# Altium footprint library AMP20220505.PcbLib: 21 footprints (part 1 of 2)
Each footprint in its own frame and in the unit in brackets; x right, y up, seen from the top. Pads: shape width x height; smd on the part's side, far side on the other; paste and mask are expansions set on the pad; w line width, h text height; cw(c..) or ccw(c..) is an arc to the next point about the centre after c.
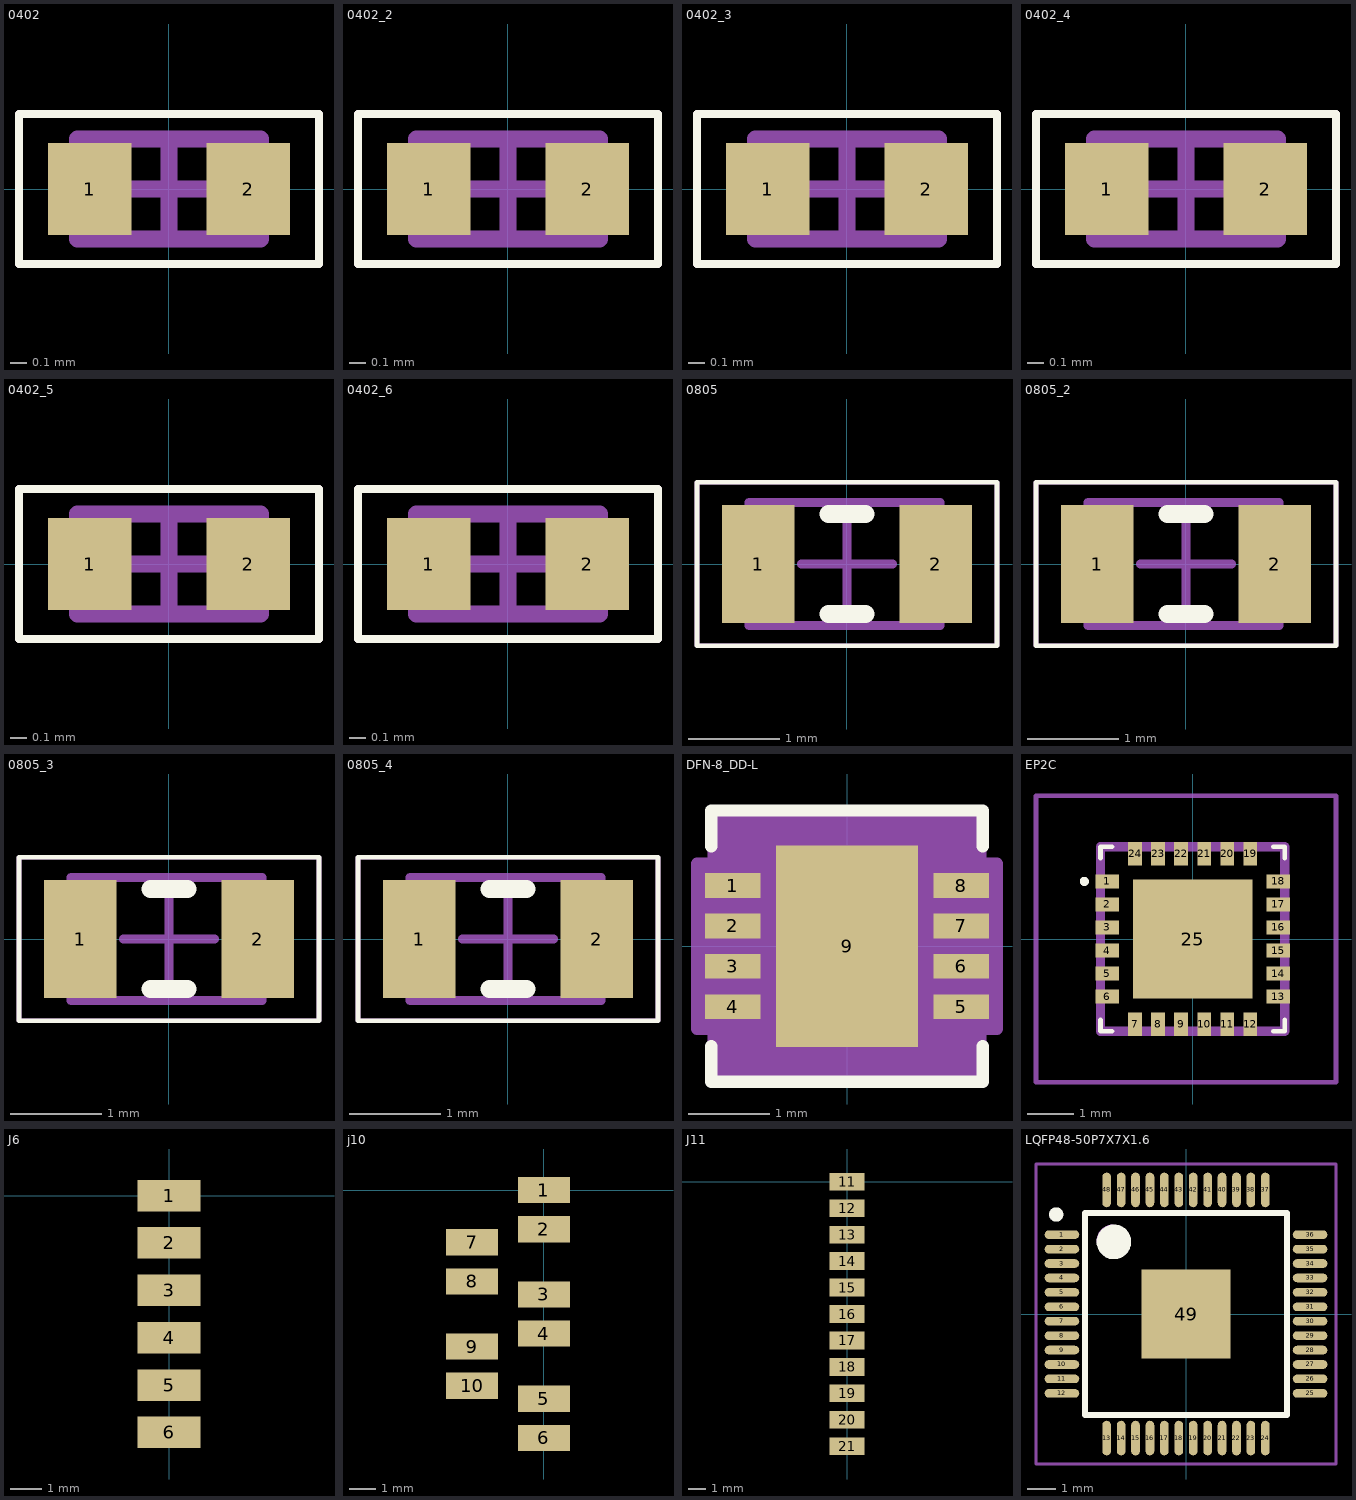
[diagram p0: the footprints below, top view; thin cyan lines are the x and y axes]

## 0402 [mm]
height 0.3
pads (2):
  rect 0.5x0.55 smd: 1(-0.475,0) 2(0.475,0)
Top Overlay:
  lines w0.05: -0.9,-0.45 -0.9,0.45 0.9,0.45 0.9,-0.45 -0.9,-0.45
Mechanical 13:
  lines w0.1: -0.55,-0.3 0.55,-0.3 0.55,0.3 -0.55,0.3 -0.55,-0.3
Mechanical 15:
  lines w0.05: -0.9,-0.45 -0.9,0.45 0.9,0.45 0.9,-0.45 -0.9,-0.45
  lines w0.1: -0.25,0 0.25,0 ; 0,-0.25 0,0.25
3D body "R0402.STEP": height 0.35, standoff 0, extent -0.5,-0.25 0.5,0.25

## 0402_2 [mm]
pads (2):
  rect 0.5x0.55 smd: 1(-0.475,0) 2(0.475,0)
Top Overlay:
  lines w0.05: -0.9,-0.45 -0.9,0.45 0.9,0.45 0.9,-0.45 -0.9,-0.45
Mechanical 13:
  lines w0.1: -0.55,-0.3 0.55,-0.3 0.55,0.3 -0.55,0.3 -0.55,-0.3
Mechanical 15:
  lines w0.05: -0.9,-0.45 -0.9,0.45 0.9,0.45 0.9,-0.45 -0.9,-0.45
  lines w0.1: -0.25,0 0.25,0 ; 0,-0.25 0,0.25
3D body "R0402.STEP": height 0.35, standoff 0, extent -0.5,-0.25 0.5,0.25

## 0402_3 [mm]
pads (2):
  rect 0.5x0.55 smd: 1(-0.475,0) 2(0.475,0)
Top Overlay:
  lines w0.05: -0.9,-0.45 0.9,-0.45 0.9,0.45 -0.9,0.45 -0.9,-0.45
Mechanical 13:
  lines w0.1: -0.55,-0.3 -0.55,0.3 0.55,0.3 0.55,-0.3 -0.55,-0.3
Mechanical 15:
  lines w0.05: -0.9,-0.45 0.9,-0.45 0.9,0.45 -0.9,0.45 -0.9,-0.45
  lines w0.1: -0.25,0 0.25,0 ; 0,-0.25 0,0.25
3D body "R0402.STEP": height 0.35, standoff 0, extent -0.5,-0.25 0.5,0.25

## 0402_4 [mm]
pads (2):
  rect 0.5x0.55 smd: 1(-0.475,0) 2(0.475,0)
Top Overlay:
  lines w0.05: -0.9,-0.45 0.9,-0.45 0.9,0.45 -0.9,0.45 -0.9,-0.45
Mechanical 13:
  lines w0.1: -0.55,-0.3 -0.55,0.3 0.55,0.3 0.55,-0.3 -0.55,-0.3
Mechanical 15:
  lines w0.05: -0.9,-0.45 0.9,-0.45 0.9,0.45 -0.9,0.45 -0.9,-0.45
  lines w0.1: -0.25,0 0.25,0 ; 0,-0.25 0,0.25
3D body "R0402.STEP": height 0.35, standoff 0, extent -0.5,-0.25 0.5,0.25

## 0402_5 [mm]
pads (2):
  rect 0.5x0.55 smd: 1(-0.475,0) 2(0.475,0)
Top Overlay:
  lines w0.05: -0.9,-0.45 -0.9,0.45 0.9,0.45 0.9,-0.45 -0.9,-0.45
Mechanical 13:
  lines w0.1: -0.55,-0.3 0.55,-0.3 0.55,0.3 -0.55,0.3 -0.55,-0.3
Mechanical 15:
  lines w0.05: -0.9,-0.45 -0.9,0.45 0.9,0.45 0.9,-0.45 -0.9,-0.45
  lines w0.1: -0.25,0 0.25,0 ; 0,-0.25 0,0.25
3D body "R0402.STEP": height 0.35, standoff 0, extent -0.5,-0.25 0.5,0.25

## 0402_6 [mm]
pads (2):
  rect 0.5x0.55 smd: 1(-0.475,0) 2(0.475,0)
Top Overlay:
  lines w0.05: -0.9,-0.45 0.9,-0.45 0.9,0.45 -0.9,0.45 -0.9,-0.45
Mechanical 13:
  lines w0.1: -0.55,-0.3 -0.55,0.3 0.55,0.3 0.55,-0.3 -0.55,-0.3
Mechanical 15:
  lines w0.05: -0.9,-0.45 0.9,-0.45 0.9,0.45 -0.9,0.45 -0.9,-0.45
  lines w0.1: -0.25,0 0.25,0 ; 0,-0.25 0,0.25
3D body "R0402.STEP": height 0.35, standoff 0, extent -0.5,-0.25 0.5,0.25

## 0805 [mm]
height 0.5
pads (2):
  rect 0.8x1.3 smd: 1(-0.975,0) 2(0.975,0)
Top Overlay:
  lines w0.05: -1.65,-0.9 -1.65,0.9 1.65,0.9 1.65,-0.9 -1.65,-0.9
  lines w0.2: -0.2,-0.55 0.2,-0.55 ; -0.2,0.55 0.2,0.55
Mechanical 13:
  lines w0.1: -1.075,-0.675 1.025,-0.675 1.025,0.675 -1.075,0.675 -1.075,-0.675
Mechanical 15:
  lines w0.05: -1.65,-0.9 -1.65,0.9 1.65,0.9 1.65,-0.9 -1.65,-0.9
  lines w0.1: -0.5,0 0.5,0 ; 0,-0.5 0,0.5
3D body "R0805.STEP": height 0.55, standoff 0, extent -1.025,-0.63 0.975,0.63

## 0805_2 [mm]
pads (2):
  rect 0.8x1.3 smd: 1(-0.975,0) 2(0.975,0)
Top Overlay:
  lines w0.05: -1.65,-0.9 1.65,-0.9 1.65,0.9 -1.65,0.9 -1.65,-0.9
  lines w0.2: -0.2,-0.55 0.2,-0.55 ; -0.2,0.55 0.2,0.55
Mechanical 13:
  lines w0.1: -1.075,-0.675 -1.075,0.675 1.025,0.675 1.025,-0.675 -1.075,-0.675
Mechanical 15:
  lines w0.05: -1.65,-0.9 1.65,-0.9 1.65,0.9 -1.65,0.9 -1.65,-0.9
  lines w0.1: -0.5,0 0.5,0 ; 0,-0.5 0,0.5
3D body "R0805.STEP": height 0.55, standoff 0, extent -1.025,-0.63 0.975,0.63

## 0805_3 [mm]
pads (2):
  rect 0.8x1.3 smd: 1(-0.975,0) 2(0.975,0)
Top Overlay:
  lines w0.05: -1.65,-0.9 1.65,-0.9 1.65,0.9 -1.65,0.9 -1.65,-0.9
  lines w0.2: -0.2,-0.55 0.2,-0.55 ; -0.2,0.55 0.2,0.55
Mechanical 13:
  lines w0.1: -1.075,-0.675 -1.075,0.675 1.025,0.675 1.025,-0.675 -1.075,-0.675
Mechanical 15:
  lines w0.05: -1.65,-0.9 1.65,-0.9 1.65,0.9 -1.65,0.9 -1.65,-0.9
  lines w0.1: -0.5,0 0.5,0 ; 0,-0.5 0,0.5
3D body "R0805.STEP": height 0.55, standoff 0, extent -1.025,-0.63 0.975,0.63

## 0805_4 [mm]
pads (2):
  rect 0.8x1.3 smd: 1(-0.975,0) 2(0.975,0)
Top Overlay:
  lines w0.05: -1.65,-0.9 -1.65,0.9 1.65,0.9 1.65,-0.9 -1.65,-0.9
  lines w0.2: -0.2,-0.55 0.2,-0.55 ; -0.2,0.55 0.2,0.55
Mechanical 13:
  lines w0.1: -1.075,-0.675 1.025,-0.675 1.025,0.675 -1.075,0.675 -1.075,-0.675
Mechanical 15:
  lines w0.05: -1.65,-0.9 -1.65,0.9 1.65,0.9 1.65,-0.9 -1.65,-0.9
  lines w0.1: -0.5,0 0.5,0 ; 0,-0.5 0,0.5
3D body "R0805.STEP": height 0.55, standoff 0, extent -1.025,-0.63 0.975,0.63

## DFN-8_DD-L [mil]
height 61.02
pads (9):
  rect 27x12 smd: 1(-55.5,29.53) 2(-55.5,9.84) 3(-55.5,-9.84) 4(-55.5,-29.53) 5(55.5,-29.53) 6(55.5,-9.84) 7(55.5,9.84) 8(55.5,29.53)
  rect 69x98 smd paste-48.5: 9(0,0)
Top Overlay:
  lines w6: -66,-48.63 -66,-66 66,-66 66,-48.63 ; -66,48.63 -66,66 66,66 66,48.63
Top Paste:
  region: 34.5,49 -34.5,49 -34.5,-49 34.5,-49
Mechanical 13:
  lines w0: -12,61 ccw(c0,61) 12,61
Mechanical 15:
  region: -65,-40.17 -73,-40.17 -73,40.17 -65,40.17 -65,65 65,65 65,40.17 73,40.17 73,-40.17 65,-40.17 65,-65 -65,-65
  lines w6: -73,-40.17 -65,-40.17 -65,-65 65,-65 65,-40.17 73,-40.17 73,40.17 65,40.17 65,65 -65,65 -65,40.17 -73,40.17 -73,-40.17
3D body "DFN-8_DD-L.stp": height 32.1, standoff 0, extent -63,-61 63,61

## EP2C [mm]
height 1.55
pads (25):
  rect 0.51x0.3 smd: 1(-1.855,1.25) 2(-1.855,0.75) 3(-1.855,0.25) 4(-1.855,-0.25) 5(-1.855,-0.75) 6(-1.855,-1.25) 13(1.855,-1.25) 14(1.855,-0.75) 15(1.855,-0.25) 16(1.855,0.25) 17(1.855,0.75) 18(1.855,1.25)
  rect 0.3x0.51 smd: 7(-1.25,-1.855) 8(-0.75,-1.855) 9(-0.25,-1.855) 10(0.25,-1.855) 11(0.75,-1.855) 12(1.25,-1.855) 19(1.25,1.855) 20(0.75,1.855) 21(0.25,1.855) 22(-0.25,1.855) 23(-0.75,1.855) 24(-1.25,1.855)
  rect 2.59x2.59 smd: 25(0,0)
Top Overlay:
  lines w0.1: -2,-1.75 -2,-2 -1.75,-2 ; -2,1.75 -2,2 -1.75,2 ; 1.75,-2 2,-2 2,-1.75 ; 1.75,2 2,2 2,1.75 ; -2.4,1.25 cw(c-2.35,1.25) -2.3,1.25 cw(c-2.35,1.25) -2.4,1.25
Mechanical 13:
  lines w0.2: -2,-2 -2,2 2,2 2,-2 -2,-2
Mechanical 15:
  lines w0.1: -3.4,-3.11 -3.4,3.11 3.11,3.11 3.11,-3.11 -3.4,-3.11
3D body "EP2C+.stp": height 1.1, standoff 0, extent -2,-2 2,2

## J6 [mm]
height 1.2
pads (6):
  rect 2x1 smd: 1(0,0) 2(0,-1.5) 3(0,-3) 4(0,-4.5) 5(0,-6) 6(0,-7.5)

## j10 [mm]
height 1.2
pads (10):
  rect 2x1 smd: 1(0,0) 2(0,-1.5) 3(0,-4) 4(0,-5.5) 5(0,-8) 6(0,-9.5) 7(-2.75,-2) 8(-2.75,-3.5) 9(-2.75,-6) 10(-2.75,-7.5)

## J11 [mm]
height 1.2
pads (11):
  rect 2x1 smd: 11(0,0) 12(0,-1.5) 13(0,-3) 14(0,-4.5) 15(0,-6) 16(0,-7.5) 17(0,-9) 18(0,-10.5) 19(0,-12) 20(0,-13.5) 21(0,-15)

## LQFP48-50P7X7X1.6 [mm] "LQFP, 48-Leads, Body 9.2x9.2mm (max), Pitch 0.50mm, IPC Medium Density"
height 1.6
pads (49):
  oval 1.2x0.3 smd: 1(-4.3,2.75) 2(-4.3,2.25) 3(-4.3,1.75) 4(-4.3,1.25) 5(-4.3,0.75) 6(-4.3,0.25) 7(-4.3,-0.25) 8(-4.3,-0.75) 9(-4.3,-1.25) 10(-4.3,-1.75) 11(-4.3,-2.25) 12(-4.3,-2.75) 25(4.3,-2.75) 26(4.3,-2.25) 27(4.3,-1.75) 28(4.3,-1.25) 29(4.3,-0.75) 30(4.3,-0.25) 31(4.3,0.25) 32(4.3,0.75) 33(4.3,1.25) 34(4.3,1.75) 35(4.3,2.25) 36(4.3,2.75)
  oval 0.3x1.2 smd: 13(-2.75,-4.3) 14(-2.25,-4.3) 15(-1.75,-4.3) 16(-1.25,-4.3) 17(-0.75,-4.3) 18(-0.25,-4.3) 19(0.25,-4.3) 20(0.75,-4.3) 21(1.25,-4.3) 22(1.75,-4.3) 23(2.25,-4.3) 24(2.75,-4.3) 37(2.75,4.3) 38(2.25,4.3) 39(1.75,4.3) 40(1.25,4.3) 41(0.75,4.3) 42(0.25,4.3) 43(-0.25,4.3) 44(-0.75,4.3) 45(-1.25,4.3) 46(-1.75,4.3) 47(-2.25,4.3) 48(-2.75,4.3)
  rect 3.1x3.1 smd: 49(0,0)
Top Overlay:
  circle w0.6: c-2.5,2.5 r0.3
  circle w0.25: c-4.5,3.45 r0.125
  lines w0.2: -3.5,-3.5 3.5,-3.5 3.5,3.5 -3.5,3.5 -3.5,-3.5
Mechanical 13:
  circle w0.1: c-2.55,2.55 r0.5
  lines w0.1: -3.5,-3.5 3.5,-3.5 3.5,3.5 -3.5,3.5 -3.5,-3.5
Mechanical 15:
  lines w0.1: -0.5,0 0.5,0 ; 0,-0.5 0,0.5 ; -5.2,-5.2 5.2,-5.2 5.2,5.2 -5.2,5.2 -5.2,-5.2
3D body: height 1.6, standoff 0.05, extent -3.5,-3.5 3.5,3.5